# EAGLE library part EASY_DRIVER (library HyTechDevices)
Easy Driver - Single channel stepper motor driver Device Page <https://www.sparkfun.com/products/12779>
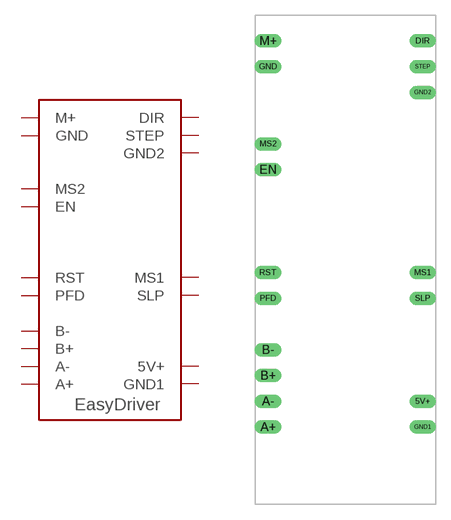
[diagram p72: symbol with the pads of EASY_DRIVER; footprint EASY_DRIVER]

Designator prefix -

## EASY_DRIVER  [EASY_DRIVER]
5V+  5V+
A+  A+
A-  A-
B+  B+
B-  B-
DIR  DIR
EN  EN
GND  GND
GND1  GND1
GND2  GND2
M+  M+
MS1  MS1
MS2  MS2
PFD  PFD
RST  RST
SLP  SLP
STEP  STEP

## Footprint EASY_DRIVER (pad centres in mm)
drill 0.8 long: 5V+ 16.51,3.81; A+ 1.27,1.27; A- 1.27,3.81; B+ 1.27,6.35; B- 1.27,8.89; DIR 16.51,39.37; EN 1.27,26.67; GND 1.27,36.83; GND1 16.51,1.27; GND2 16.51,34.29; M+ 1.27,39.37; MS1 16.51,16.51; MS2 1.27,29.21; PFD 1.27,13.97; RST 1.27,16.51; SLP 16.51,13.97; STEP 16.51,36.83